# EAGLE library part ADC124S__1(NATSEMI-QUAD-ADC) (library QuantumOptics)
ADC124S??1, NatSemi, quad serial 12-bit ADC. 3 speeds available. http://cache.national.com/ds/DC/ADC124S101.pdf
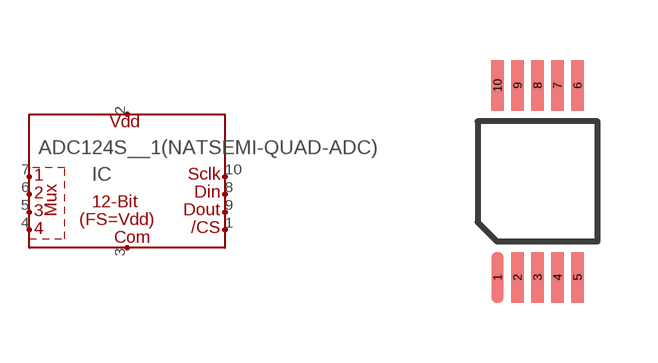
[diagram p71: symbol with the pads of MSOP10; footprint MSOP10]

Designator prefix IC

## ADC124S__1(NATSEMI-QUAD-ADC)  [MSOP10]
1  ~CS  in
2  VA
3  COM
4  IN4  in
5  IN3  in
6  IN2  in
7  IN1  in
8  DIN  in
9  DOUT  out
10  SCLK  in

## Footprint MSOP10 (pad centres in mm)
MSOP-10 with 4.8mm row spacing. Sameas Maxim's µsop-10.
smd 0.305 x 1.27: 1 -1,-2.4; 2 -0.5,-2.4; 3 0,-2.4; 4 0.5,-2.4; 5 1,-2.4; 6 1,2.4; 7 0.5,2.4; 8 0,2.4; 9 -0.5,2.4; 10 -1,2.4